# EAGLE library part SHF-105-01-X-D-TH (library SHF-105-01-X-D-TH)
.050 x .050 SHROUDED TERMINAL STRIP.
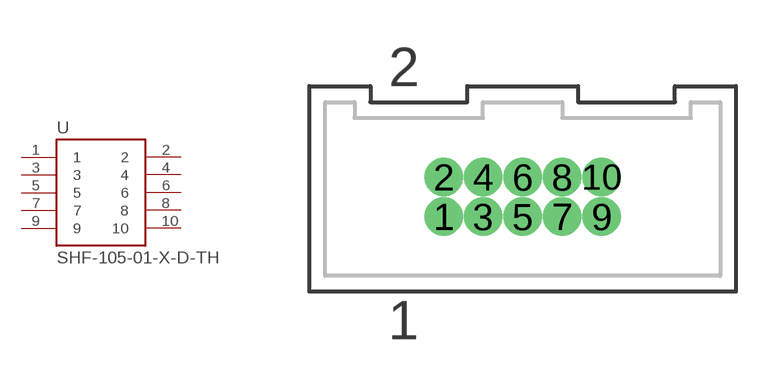
[diagram p0: symbol with the pads of SHF-105-01-X-D-TH; footprint SHF-105-01-X-D-TH]

Designator prefix -

## SHF-105-01-X-D-TH (Description: SHF Series .050 Shrouded Terminal Strip For FFSD; Digi-Key_Part_Number: SAM10711-ND; Digi-Key_Purchase_URL: https://www.digikey.com/product-detail/en/samtec-inc/SHF-105-01-L-D-TH/SAM10711-ND/6561671?utm_source=snapeda&utm_medium=aggregator&utm_campaign=symbol; MF: Samtec; MP: SHF-105-01-L-D-TH; Package: None)  [SHF-105-01-X-D-TH]
1  1
2  2
3  3
4  4
5  5
6  6
7  7
8  8
9  9
10  10

## Footprint SHF-105-01-X-D-TH (pad centres in mm)
0.050"X0.050"SHROUDED TERMINAL STRIP, 10PINS.
drill 0.737 pad 1.067: 1 -2.54,-0.635; 2 -2.54,0.635; 3 -1.27,-0.635; 4 -1.27,0.635; 5 0,-0.635; 6 0,0.635; 7 1.27,-0.635; 8 1.27,0.635; 9 2.54,-0.635; 10 2.54,0.635